# Altium footprint library PASSIVE_THD.PCBLIB: 248 footprints (part 10 of 16)
Each footprint in its own frame and in the unit in brackets; x right, y up, seen from the top. Pads: shape width x height; smd on the part's side, far side on the other; paste and mask are expansions set on the pad; w line width, h text height; cw(c..) or ccw(c..) is an arc to the next point about the centre after c.
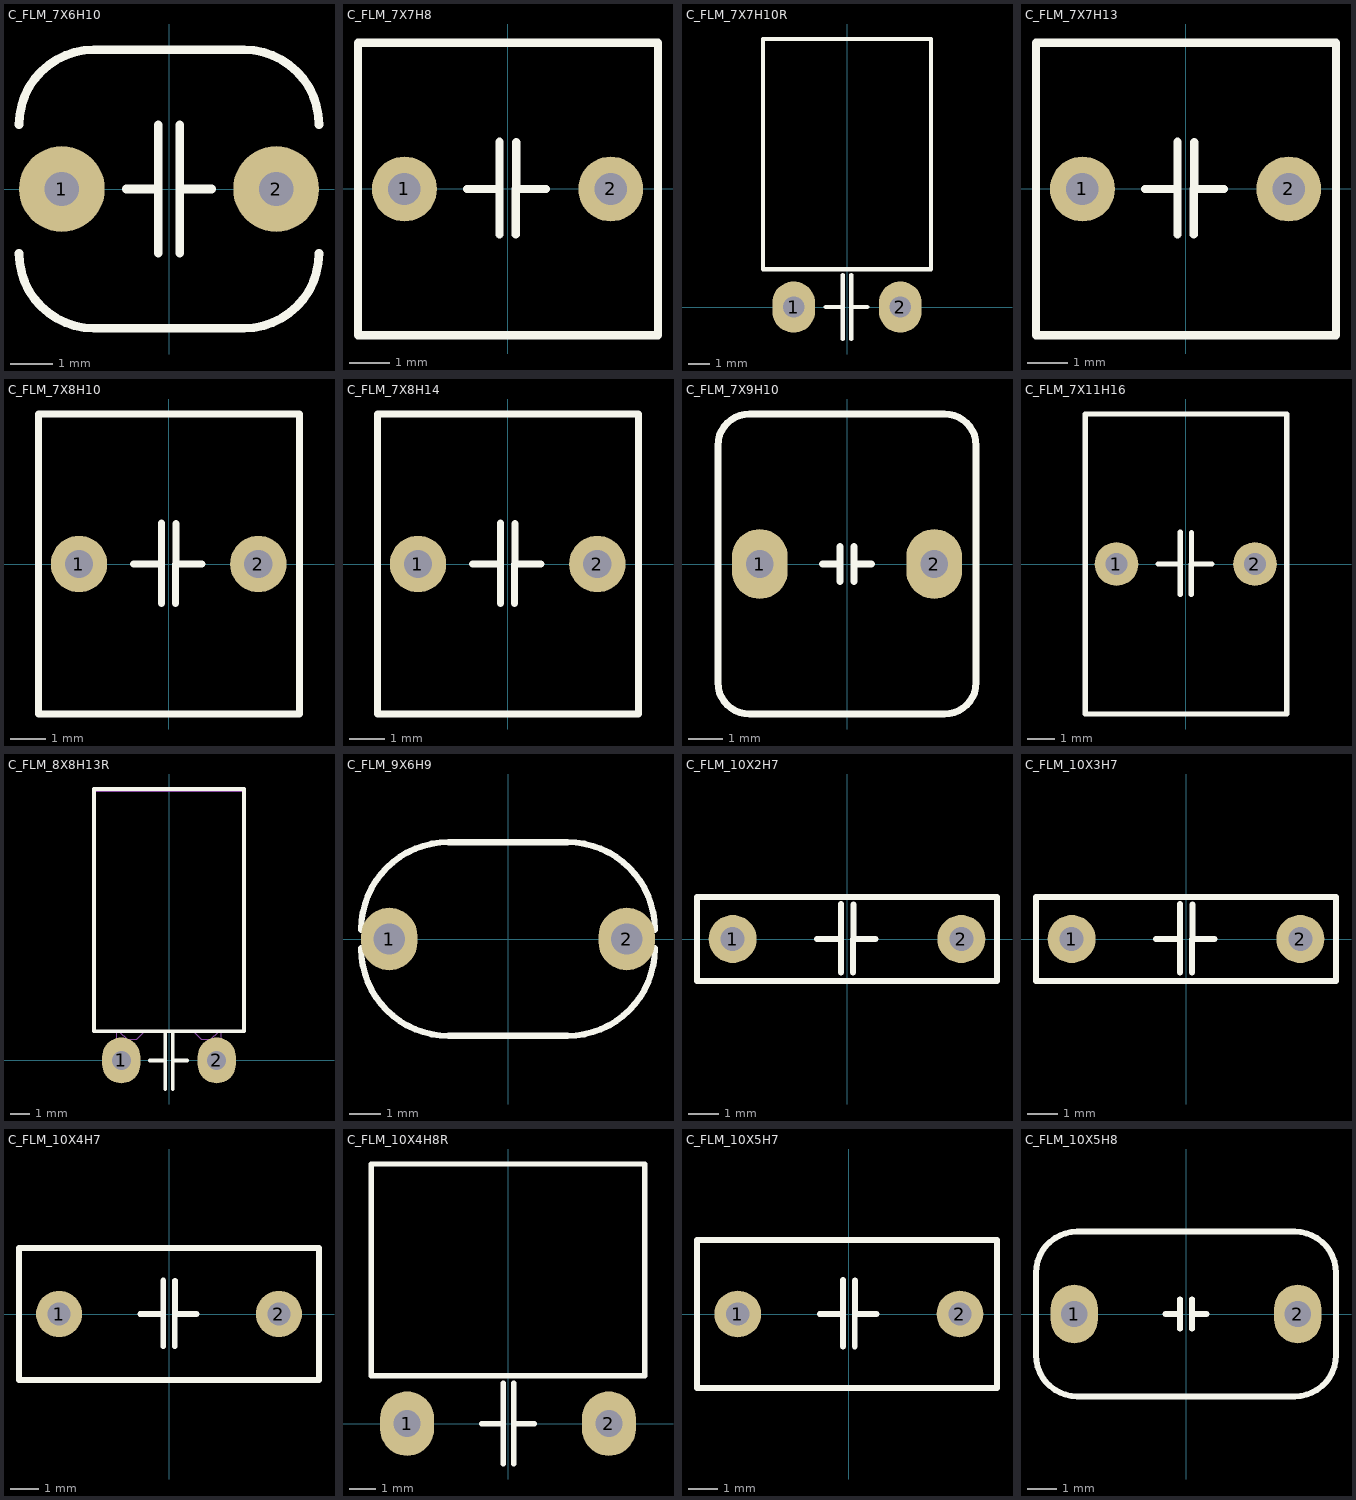
[diagram p9: the footprints below, top view; thin cyan lines are the x and y axes]

## C_FLM_7X6H10 [mm] "Capacitor, THT, Metallized Polyester Film, 7.3x6.5x10"
height 10
pads (2):
  round 2 hole 0.8: 1(-2.5,0) 2(2.5,0)
TopOverlay:
  lines w0.2: -3.5,-1.5 ccw(c-1.75,-1.5) -1.75,-3.25 1.75,-3.25 ccw(c1.75,-1.5) 3.5,-1.5 ; -3.5,1.5 cw(c-1.75,1.5) -1.75,3.25 1.75,3.25 cw(c1.75,1.5) 3.5,1.5 ; -1,0 -0.25,0 ; -0.25,-1.5 -0.25,1.5 ; 0.25,-1.5 0.25,1.5 ; 0.25,0 1,0
3D body "Cap, film, 7.3x6.5x10x5LS.STP": height 11, standoff -2, extent -3.65,-3.25 3.65,3.25

## C_FLM_7X7H8 [mm] "Capacitor, THT, Metallized Polyester Film with 7.2x7.2x8.5mm LxTxH"
height 8.5
pads (2):
  round 1.6 hole 0.8: 1(-2.54,0) 2(2.54,0)
TopOverlay:
  lines w0.2: -1,0 -0.2,0 ; -0.2,-1.119 -0.2,1.164 ; 0.2,-1.119 0.212,1.151 ; 0.2,0 0.95,0 ; -3.683,-3.6 3.703,-3.6 3.703,3.6 -3.683,3.6 -3.683,-3.6
3D body "FILM_RED_P500L720W720H850PD50.step": height 8.5, standoff -6.2, extent -3.6,-3.6 3.6,3.6

## C_FLM_7X7H10R [mm] "Capacitor, THT, Metallized Polyester Film with 7.6x7.0x10.6mm TxHxW"
height 6.4
pads (2):
  oval 2x2.4 hole 1: 1(-2.5,0) 2(2.5,0)
TopOverlay:
  lines w0.2: -1,0 -0.2,0 ; -0.2,-1.5 -0.2,1.5 ; 0.2,-1.5 0.2,1.5 ; 0.2,0 0.95,0 ; -3.937,1.778 -3.937,12.573 3.937,12.573 3.937,1.778 -3.937,1.778
3D body "CAPM50P760640X1140_FLAT.STEP": height 6.4, standoff -1.78, extent -3.8,-0.249 3.8,12.5

## C_FLM_7X7H13 [mm] "Capacitor, THT, Metallized Polyester Film with 7.2x7.2x13mm LxTxH"
height 13
pads (2):
  round 1.6 hole 0.8: 1(-2.54,0) 2(2.54,0)
TopOverlay:
  lines w0.2: -1,0 -0.2,0 ; -0.2,-1.119 -0.2,1.164 ; 0.2,-1.119 0.212,1.151 ; 0.2,0 0.95,0 ; -3.683,-3.6 3.703,-3.6 3.703,3.6 -3.683,3.6 -3.683,-3.6
3D body "FILM_RED_P500L720W720H1300PD50.step": height 13, standoff -6.2, extent -3.6,-3.6 3.6,3.6

## C_FLM_7X8H10 [mm] "Capacitor, THT, Metallized Polyester Film with 7.2x8.5x10mm LxTxH"
height 10
pads (2):
  round 1.6 hole 0.8: 1(-2.54,0) 2(2.54,0)
TopOverlay:
  lines w0.2: -1,0 -0.2,0 ; -0.2,-1.119 -0.2,1.164 ; 0.2,-1.119 0.212,1.151 ; 0.2,0 0.95,0 ; -3.683,-4.25 -3.683,4.25 3.703,4.25 3.703,-4.25 -3.683,-4.25
3D body "FILM_RED_P500L720W850H1000PD50.step": height 10, standoff -6.2, extent -3.6,-4.25 3.6,4.25

## C_FLM_7X8H14 [mm] "Capacitor, THT, Metallized Polyester Film with 7.2x8.5x14mm LxTxH"
height 14
pads (2):
  round 1.6 hole 0.8: 1(-2.54,0) 2(2.54,0)
TopOverlay:
  lines w0.2: -1,0 -0.2,0 ; -0.2,-1.119 -0.2,1.164 ; 0.2,-1.119 0.212,1.151 ; 0.2,0 0.95,0 ; -3.683,-4.25 -3.683,4.25 3.703,4.25 3.703,-4.25 -3.683,-4.25
3D body "FILM_RED_P500L720W850H1400PD50.step": height 14, standoff -6.2, extent -3.6,-4.25 3.6,4.25

## C_FLM_7X9H10 [mm] "CAP, POLYESTER, 7.2X8.5x10mm pitch: 5.0mm"
height 10
pads (2):
  oval 1.6x2 hole 0.8: 1(-2.5,0) 2(2.5,0)
TopOverlay:
  lines w0.2: -0.7,0 -0.2,0 ; -0.2,-0.5 -0.2,0.5 ; 0.2,-0.5 0.2,0.5 ; 0.2,0 0.7,0 ; -3.7,-3.4 ccw(c-2.8,-3.4) -2.8,-4.3 2.8,-4.3 ccw(c2.8,-3.4) 3.7,-3.4 3.7,3.4 ccw(c2.8,3.4) 2.8,4.3 -2.8,4.3 ccw(c-2.8,3.4) -3.7,3.4 -3.7,-3.4
3D body: height 10, standoff 0, extent -3.6,-4.2 3.6,4.2

## C_FLM_7X11H16 [mm] "Capacitor, THT, Metallized Polyester Film with 7.2x11x16mm LxTxH"
height 16
pads (2):
  round 1.6 hole 0.8: 1(-2.54,0) 2(2.54,0)
TopOverlay:
  lines w0.2: -1,0 -0.2,0 ; -0.2,-1.119 -0.2,1.164 ; 0.2,-1.119 0.212,1.151 ; 0.2,0 0.95,0 ; -3.683,-5.5 -3.683,5.5 3.703,5.5 3.703,-5.5 -3.683,-5.5
3D body "FILM_RED_P500L720W1100H1600PD50.step": height 16, standoff -6.2, extent -3.6,-5.5 3.6,5.5

## C_FLM_8X8H13R [mm] "Capacitor, THT, Metallized Polyester Film with 7.8x7.8x13.0mm LxTxH"
height 7.8
pads (2):
  oval 2x2.4 hole 1: 1(-2.5,0) 2(2.5,0)
TopOverlay:
  lines w0.2: -1,0 -0.2,0 ; -0.2,-1.5 -0.2,1.5 ; 0.2,-1.5 0.2,1.5 ; 0.2,0 0.95,0 ; -3.937,1.524 3.937,1.524 3.937,14.224 -3.937,14.224 -3.937,1.524
Mechanical13:
  lines w0.05: -2.75,0.75 -2.25,0.75 ; -2.75,1.5 -2.75,0 ccw(c-2.5,0) -2.25,0 -2.25,1.15 ; 2.25,0.75 2.75,0.75 ; 2.25,1.15 2.25,0 ccw(c2.5,0) 2.75,0 2.75,1.5 ; -3.9,1.5 -2.6,1.5 -2.2,1.1 -1.7,1.1 -1.3,1.5 1.3,1.5 1.7,1.1 2.2,1.1 2.6,1.5 3.9,1.5 3.9,14.1 -3.9,14.1 -3.9,1.5
3D body "CAPM50P780780X1300_FLAT.STEP": height 7.8, standoff -1.78, extent -3.9,-0.249 3.9,14.1

## C_FLM_9X6H9 [mm] "CAP, POLYESTER, 9.3X5.2mm pitch: 7.6mm"
pads (2):
  oval 1.8x2 hole 1: 1(-3.8,0) 2(3.8,0)
TopOverlay:
  lines w0.2: -4.7,-0.3 ccw(c-1.9,-0.3) -1.9,-3.1 1.9,-3.1 ccw(c1.9,-0.3) 4.7,-0.3 ; -4.7,0.3 cw(c-1.9,0.3) -1.9,3.1 1.9,3.1 cw(c1.9,0.3) 4.7,0.3
3D body "Cap 100n - 400V Poly.STEP": height 11.68, standoff -2.24, extent -4.585,-2.931 4.686,2.988

## C_FLM_10X2H7 [mm] "Capacitor, THT, Metallized Polyester Film 10x2.5x7mm LxTxH"
height 7
pads (2):
  round 1.6 hole 0.8: 1(-3.81,0) 2(3.81,0)
TopOverlay:
  lines w0.2: -1,0 -0.2,0 ; -0.2,-1.119 -0.2,1.164 ; 0.2,-1.119 0.212,1.151 ; 0.2,0 0.95,0 ; -5,-1.397 5,-1.397 5,1.397 -5,1.397 -5,-1.397
3D body "FILM_RED_P750L1000W250H700PD60.step": height 7, standoff -6.2, extent -5,-1.25 5,1.25

## C_FLM_10X3H7 [mm] "Capacitor, THT, Metallized Polyester Film 10x3x7mm LxTxH"
height 7
pads (2):
  round 1.6 hole 0.8: 1(-3.81,0) 2(3.81,0)
TopOverlay:
  lines w0.2: -1,0 -0.2,0 ; -0.2,-1.119 -0.2,1.164 ; 0.2,-1.119 0.212,1.151 ; 0.2,0 0.95,0 ; -5,-1.397 5,-1.397 5,1.397 -5,1.397 -5,-1.397
3D body "FILM_RED_P750L1000W300H850PD60.step": height 8.5, standoff -6.2, extent -5,-1.5 5,1.5

## C_FLM_10X4H7 [mm] "Capacitor, THT, Metallized Polyester Film 10x4.5x7mm LxTxH"
height 7
pads (2):
  round 1.6 hole 0.8: 1(-3.81,0) 2(3.81,0)
TopOverlay:
  lines w0.2: -1,0 -0.2,0 ; -0.2,-1.119 -0.2,1.164 ; 0.2,-1.119 0.212,1.151 ; 0.2,0 0.95,0 ; -5.2,-2.286 5.2,-2.286 5.2,2.286 -5.2,2.286 -5.2,-2.286
3D body "FILM_RED_P750L1030W450H950PD60.step": height 9, standoff -6.2, extent -5.15,-2.25 5.15,2.25

## C_FLM_10X4H8R [mm] "Capacitor, THT, Metallized Polyester Film with 3.5x9.5x10.0mm TxHxW"
height 3.5
pads (2):
  oval 2x2.4 hole 1: 1(-3.75,0) 2(3.75,0)
TopOverlay:
  lines w0.2: -0.98,0 -0.18,0 ; -0.18,-1.5 -0.18,1.5 ; 0.22,-1.5 0.22,1.5 ; 0.22,0 0.97,0 ; -5.08,1.778 5.08,1.778 5.08,9.652 -5.08,9.652 -5.08,1.778
3D body "CAPM75P1000400X850_FLAT.STEP": height 4, standoff -1.78, extent -5,-0.249 5,9.6

## C_FLM_10X5H7 [mm] "Capacitor, THT, Metallized Polyester Film 10x5x7mm LxTxH"
height 7
pads (2):
  round 1.6 hole 0.8: 1(-3.81,0) 2(3.81,0)
TopOverlay:
  lines w0.2: -1,0 -0.2,0 ; -0.2,-1.119 -0.2,1.164 ; 0.2,-1.119 0.212,1.151 ; 0.2,0 0.95,0 ; -5.207,-2.54 5.08,-2.54 5.08,2.54 -5.207,2.54 -5.207,-2.54
3D body "FILM_RED_P750L1030W500H1050PD60.step": height 10.5, standoff -6.2, extent -5.207,-2.54 5.093,2.46

## C_FLM_10X5H8 [mm] "CAP, POLYESTER, 10X5.5mm pitch: 7.6mm"
height 9
pads (2):
  oval 1.6x2 hole 0.9 unplated mask+0.075: 1(-3.8,0) 2(3.8,0)
TopOverlay:
  lines w0.2: -0.7,0 -0.2,0 ; -0.2,-0.5 -0.2,0.5 ; 0.2,-0.5 0.2,0.5 ; 0.2,0 0.7,0 ; -5.1,-1.4 ccw(c-3.7,-1.4) -3.7,-2.8 3.7,-2.8 ccw(c3.7,-1.4) 5.1,-1.4 5.1,1.4 ccw(c3.7,1.4) 3.7,2.8 -3.7,2.8 ccw(c-3.7,1.4) -5.1,1.4 -5.1,-1.4
3D body "CAPF_5.5x9.0x10.0 TxHxW 7.5mmLS.STEP": height 9, standoff -2.54, extent -5,-2.75 5,2.75